# Altium schematic symbol library TS-1088-AR02016.SchLib: 2 symbols
Pins are listed as number, name and electrical type; pins without a type are passive.

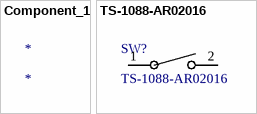
[diagram p0: symbols Component_1 to TS-1088-AR02016]

## Component_1
designator *

## TS-1088-AR02016
designator SW?
No Description Available; Manufacturer_Name: Xunpu; Copyright: Copyright (C) 2025 Ultra Librarian. All rights reserved.; Manufacturer_Part_Number: TS-1088-AR02016
footprint SW_TS-1088_XNP
pins: 1, 2